# EAGLE library part LTC3426 (library JCM)
Linear Technology LTC3426 - 1.2 MHz Step-Up DC/DC Converter in TSOT-23 6.
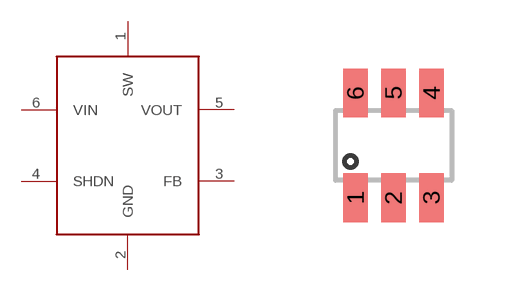
[diagram p2: symbol with the pads of TSOT23-6; footprint TSOT23-6]

Designator prefix -

## LTC3426  [TSOT23-6]
1  SW
2  GND
3  FB
4  SHDN
5  VOUT
6  VIN

## Footprint TSOT23-6 (pad centres in mm)
smd 0.622 x 1.22: 1 -0.95,-1.31; 2 0,-1.31; 3 0.95,-1.31; 4 0.95,1.31; 5 0,1.31; 6 -0.95,1.31